# EAGLE library part MC9S08QG8 (library EELE_465)
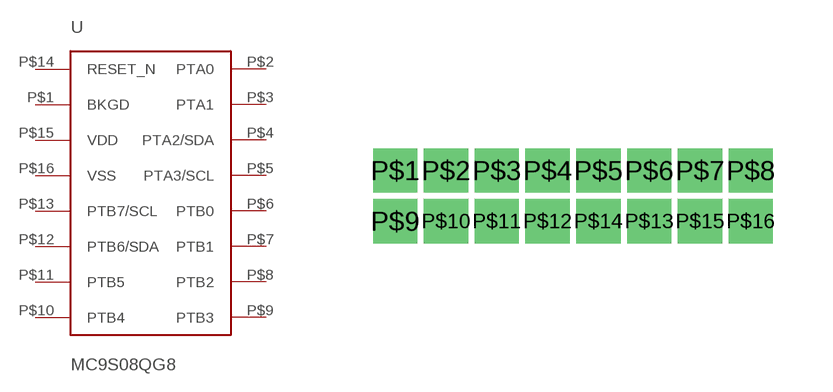
[diagram p5: symbol with the pads of MC9S08QG8; footprint MC9S08QG8]

Designator prefix -

## MC9S08QG8  [MC9S08QG8]
P$1  BKGD
P$2  PTA0
P$3  PTA1
P$4  PTA2/SDA
P$5  PTA3/SCL
P$6  PTB0
P$7  PTB1
P$8  PTB2
P$9  PTB3
P$10  PTB4
P$11  PTB5
P$12  PTB6/SDA
P$13  PTB7/SCL
P$14  RESET_N
P$15  VDD
P$16  VSS

## Footprint MC9S08QG8 (pad centres in mm)
drill 0.6 square: P$1 0,0; P$2 1.27,0; P$3 2.54,0; P$4 3.81,0; P$5 5.08,0; P$6 6.35,0; P$7 7.62,0; P$8 8.89,0; P$9 0,-1.27; P$10 1.27,-1.27; P$11 2.54,-1.27; P$12 3.81,-1.27; P$13 6.35,-1.27; P$14 5.08,-1.27; P$15 7.62,-1.27; P$16 8.89,-1.27